# Altium footprint library 8-8点阵.PcbLib: 1 footprints
Each footprint in its own frame and in the unit in brackets; x right, y up, seen from the top. Pads: shape width x height; smd on the part's side, far side on the other; paste and mask are expansions set on the pad; w line width, h text height; cw(c..) or ccw(c..) is an arc to the next point about the centre after c.
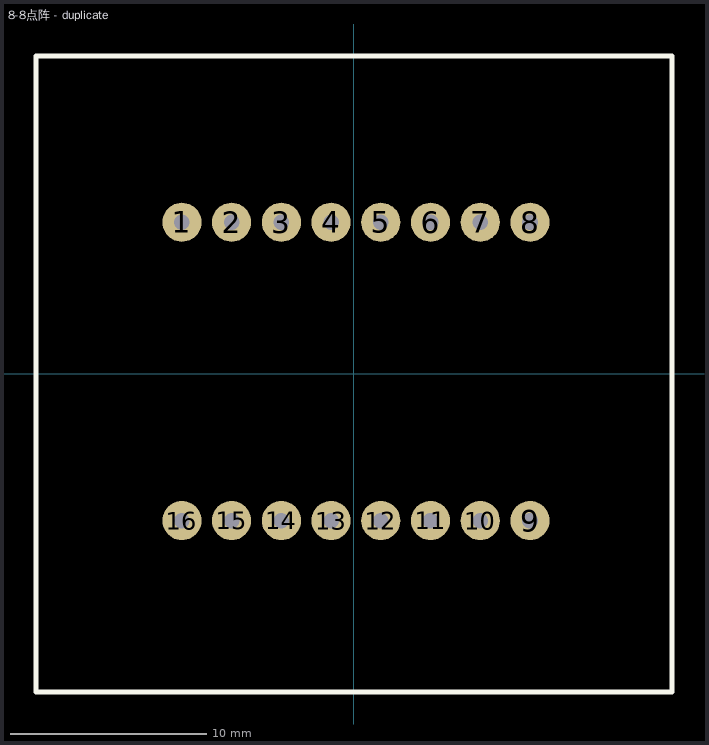
[diagram p0: the footprint, top view; thin cyan lines are the x and y axes]

## 8-8点阵 - duplicate [mm]
pads (16):
  round 2 hole 0.8: 1(-8.78,7.74) 2(-6.24,7.74) 3(-3.7,7.74) 4(-1.16,7.74) 5(1.38,7.74) 6(3.92,7.74) 7(6.46,7.74) 8(9,7.74) 9(9,-7.5) 10(6.46,-7.5) 11(3.92,-7.5) 12(1.38,-7.5) 13(-1.16,-7.5) 14(-3.7,-7.5) 15(-6.24,-7.5) 16(-8.78,-7.5)
Top Overlay:
  lines w0.254: -16.24,-16.26 -16.24,16.24 16.26,16.24 16.26,-16.26 -16.24,-16.26